# EAGLE library part BLUEGIGA-BLE121LR (library FaBo-BT)
Bluetooth Bluetooth 4.0 low energy radio Radio Transmit power: +8 dBm Receiver sensitivity: -98 dBm Typical line-of-sight range: up to 450 meters Current Consumption TX peak current: 36 mA, 25 mA (with DC/DC) RX peak current: 33 mA Power mode 1: 2.7 mA Power mode 2: 1.3 uA Power mode 3: 0.5 uA Certifications Japan: MIC Japan certification ( 209-J00111 )
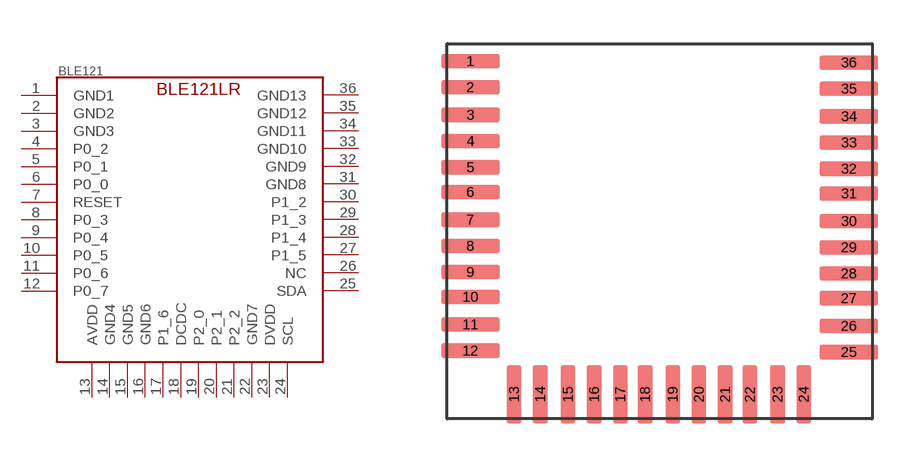
[diagram p0: symbol with the pads of BLUEGIGA-BLE121LR; footprint BLUEGIGA-BLE121LR]

Designator prefix BLE121

## BLUEGIGA-BLE121LR  [BLUEGIGA-BLE121LR]
1  GND1
2  GND2
3  GND3
4  P0_2
5  P0_1
6  P0_0
7  RESET
8  P0_3
9  P0_4
10  P0_5
11  P0_6
12  P0_7
13  AVDD
14  GND4
15  GND5
16  GND6
17  P1_6
18  DCDC
19  P2_0
20  P2_1
21  P2_2
22  GND7
23  DVDD
24  SCL
25  SDA
26  NC
27  P1_5
28  P1_4
29  P1_3
30  P1_2
31  GND8
32  GND9
33  GND10
34  GND11
35  GND12
36  GND13

## Footprint BLUEGIGA-BLE121LR (pad centres in mm)
Bluetooth Bluetooth 4.0 low energy radio Radio Transmit power: +8 dBm Receiver sensitivity: -98 dBm Typical line-of-sight range: up to 450 meters Current Consumption TX peak current: 36 mA, 25 mA (with DC/DC) RX peak current: 33 mA Power mode 1: 2.7 mA Power mode 2: 1.3 uA Power mode 3: 0.5 uA Certifications Japan: MIC Japan certification ( 209-J00111 )
smd 2 x 0.5: 1 -6.4,4.8; 2 -6.4,3.9; 3 -6.4,2.95; 4 -6.4,2.05; 5 -6.4,1.15; 6 -6.4,0.3; 7 -6.4,-0.65; 8 -6.4,-1.55; 9 -6.4,-2.45; 10 -6.4,-3.3; 11 -6.4,-4.25; 12 -6.4,-5.15; 25 6.6,-5.2; 26 6.6,-4.3; 27 6.6,-3.35; 28 6.6,-2.5; 29 6.6,-1.6; 30 6.6,-0.7; 31 6.6,0.25; 32 6.6,1.1; 33 6.6,2; 34 6.6,2.9; 35 6.6,3.85; 36 6.6,4.75
smd 0.5 x 2: 13 -4.9,-6.65; 14 -4,-6.65; 15 -3.05,-6.65; 16 -2.15,-6.65; 17 -1.25,-6.65; 18 -0.4,-6.65; 19 0.55,-6.65; 20 1.45,-6.65; 21 2.35,-6.65; 22 3.2,-6.65; 23 4.15,-6.65; 24 5.05,-6.65